# EAGLE library part LM75B (library RitLaunchInitiative)
I2c temperature sensor|Output Switch, Programmable Limit, Shutdown Mode| http://www.nxp.com/documents/data_sheet/LM75B.pdf
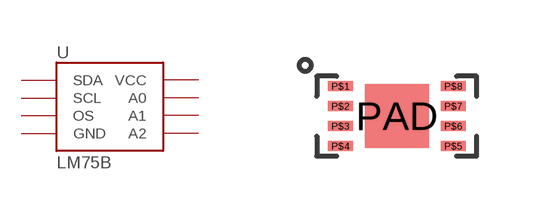
[diagram p12: symbol with the pads of HWSON8; footprint HWSON8]

Designator prefix U

## LM75B (DIGI: 568-9815-1-ND; MPN: LM75BTP)  [HWSON8]
P$1  SDA
P$2  SCL
P$3  OS
P$4  GND
P$5  A2
P$6  A1
P$7  A0
P$8  VCC

## Footprint HWSON8 (pad centres in mm)
smd 0.625 x 0.25: P$1 -1.413,0.75; P$2 -1.413,0.25; P$3 -1.413,-0.25; P$4 -1.413,-0.75; P$5 1.413,-0.75; P$6 1.413,-0.25; P$7 1.413,0.25; P$8 1.413,0.75
smd 1.6 x 1.6: PAD 0,0